# Altium schematic symbol library Header 3H.Schlib: 1 symbol
Pins are listed as number, name and electrical type; pins without a type are passive.

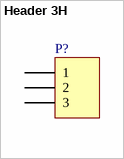
[diagram p0: symbol Header 3H]

## Header 3H
designator P?
Header, 3-Pin, Right Angle
pins: 1, 2, 3